# EAGLE library part XN297L (library AlienWhoop)
XN297L 2.4GHz by Panchip
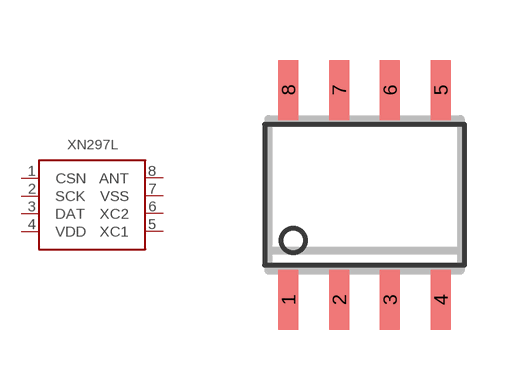
[diagram p1: symbol with the pads of SOP8L; footprint SOP8L]

Designator prefix -

## XN297L  [SOP8L]
1  CSN
2  SCK
3  DAT
4  VDD  pwr
5  XC1
6  XC2
7  VSS  pwr
8  ANT

## Footprint SOP8L (pad centres in mm)
XN297L SOP8L 2.4GHz by Panchip
smd 0.5 x 1.5: 1 -1.905,-2.625; 2 -0.635,-2.625; 3 0.635,-2.625; 4 1.905,-2.625; 5 1.905,2.625; 6 0.635,2.625; 7 -0.635,2.625; 8 -1.905,2.625